# EAGLE library part LTC1563* (library HyTechDevices)
Analog Devices LTC1563 Lowpass Filter. Datasheet <https://www.analog.com/media/en/technical-documentation/data-sheets/156323fa.pdf>
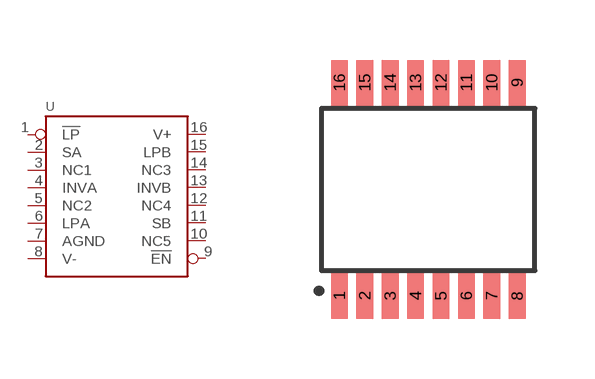
[diagram p78: symbol with the pads of SSOP-16; footprint SSOP-16]

Designator prefix U

## LTC1563 (DKPN: LTC1563-2IGN-ND; MANUFACTURER: Analog Devices; MOPN: 584-LTC1563-2IGN; MPN: LTC1563-2IGN)  [SSOP-16]
1  !LP  in
2  SA
3  NC1  nc
4  INVA  in
5  NC2  nc
6  LPA
7  AGND  pwr
8  V-  pwr
9  !EN  in
10  NC5  nc
11  SB
12  NC4  nc
13  INVB  in
14  NC3  nc
15  LPB
16  V+  pwr

## Footprint SSOP-16 (pad centres in mm)
smd 0.419 x 1.143: 1 -2.159,-2.667; 2 -1.524,-2.667; 3 -0.889,-2.667; 4 -0.254,-2.667; 5 0.381,-2.667; 6 1.016,-2.667; 7 1.651,-2.667; 8 2.286,-2.667; 9 2.286,2.667; 10 1.651,2.667; 11 1.016,2.667; 12 0.381,2.667; 13 -0.254,2.667; 14 -0.889,2.667; 15 -1.524,2.667; 16 -2.159,2.667